# EAGLE library part GP-635T (library custom)
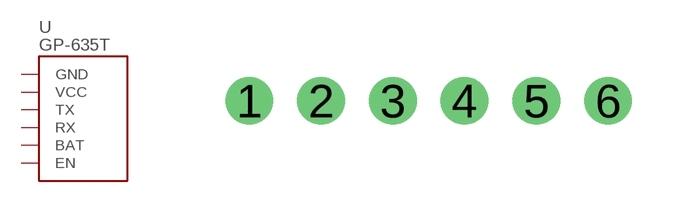
[diagram p89: symbol with the pads of GP-635T; footprint GP-635T]

Designator prefix U

## GP-635T  [GP-635T]
1  GND
2  VCC
3  TX
4  RX
5  BAT
6  EN

## Footprint GP-635T (pad centres in mm)
drill 0.762: 1 -4.763,0; 2 -2.857,0; 3 -0.953,0; 4 0.953,0; 5 2.857,0; 6 4.763,0